# Altium footprint library UltiSID.PcbLib: 39 footprints (part 2 of 3)
Each footprint in its own frame and in the unit in brackets; x right, y up, seen from the top. Pads: shape width x height; smd on the part's side, far side on the other; paste and mask are expansions set on the pad; w line width, h text height; cw(c..) or ccw(c..) is an arc to the next point about the centre after c.
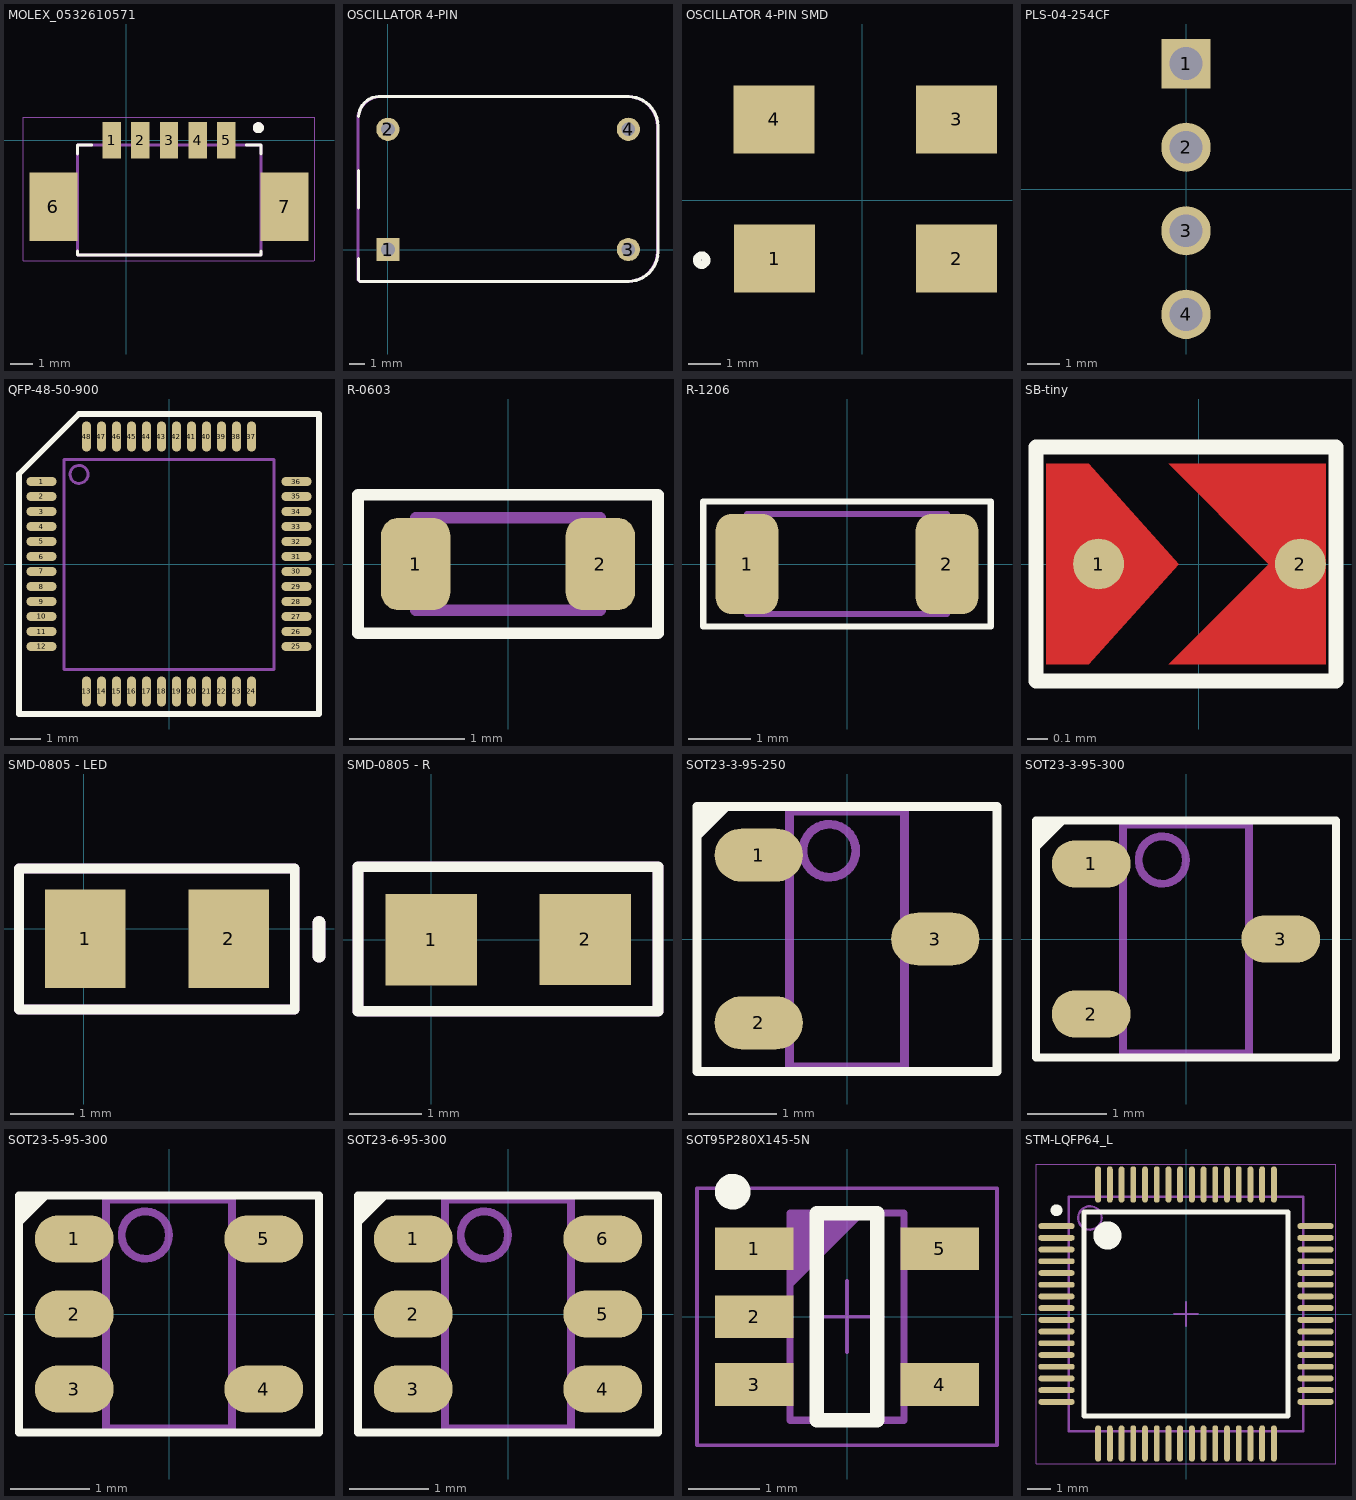
[diagram p1: the footprints below, top view; thin cyan lines are the x and y axes]

## MOLEX_0532610571 [mm] "1.25mm PicoBlade PCB Header"
height 5
pads (7):
  rect 0.8x1.6 smd: 1(-0.625,0) 2(0.625,0) 3(1.875,0) 4(3.125,0) 5(4.375,0)
  rect 2.1x3 smd: 6(-3.175,-2.9) 7(6.925,-2.9)
Top Overlay:
  circle w0.24: c5.775,0.55 r0.12
  lines w0.127: -2.125,-4.825 -2.125,-5 5.9,-5 5.9,-4.825 ; -2.125,-0.6 -2.125,-0.2 -1.5,-0.2 ; 5.25,-0.2 5.9,-0.2 5.9,-0.6
Mechanical 13:
  circle w0.24: c5.775,0.55 r0.12
  lines w0.127: -2.125,-5 5.9,-5 5.9,-0.2 -2.125,-0.2 -2.125,-5
Mechanical 15:
  lines w0.05: 8.2,-5.25 -4.5,-5.25 -4.5,1 4.5,1 8.2,1 ; 8.25,-5.25 8.25,-3.713 8.25,-1.965 ; 8.25,-2 8.25,-1.5 8.25,1
3D body "532610571.stp": height 3.4, standoff 0, extent -3.825,-4.725 7.575,0.475

## OSCILLATOR 4-PIN [mil]
pads (4):
  rect 58x58 hole 34: 1(0,0)
  round 58 hole 34: 2(0,300.2) 3(600.39,0) 4(600.39,300.2)
Top Overlay:
  lines w7.99: -73.82,-75.79 -73.82,-22.64 ; -73.82,104.33 -73.82,196.85 ; -73.22,332.16 cw(c-22.18,330.82) -23.52,381.85 ; -69.88,-79.72 601.38,-79.72 ccw(c599.41,-4.92) 674.21,-6.89 674.21,309.06 ccw(c599.41,307.09) 601.38,381.89 -22.18,381.89
Mechanical 1:
  lines w4.92: -74.8,-75.79 -70.87,-79.72
  lines w7.99: -74.8,-75.79 -74.8,324.8 ; -74.78,326.3 cw(c-17.72,324.8) -19.22,381.87 ; -70.87,-79.72 600.39,-79.72 ccw(c598.43,-4.92) 673.23,-6.89 673.23,309.06 ccw(c598.43,307.09) 600.39,381.89 -17.72,381.89

## OSCILLATOR 4-PIN SMD [mm]
pads (4):
  rect 2.5x2.1 smd: 1(-2.718,-1.803) 2(2.919,-1.8) 3(2.919,2.509) 4(-2.733,2.509)
Top Overlay:
  circle w0.254: c-4.975,-1.85 r0.144

## PLS-04-254CF [mm] "Male, Body 2.5x10.2mm case free"
height 2.5
pads (4):
  rect 1.5x1.5 hole 1: 1(0,3.81)
  round 1.5 hole 1: 2(0,1.27) 3(0,-1.27) 4(0,-3.81)
Mechanical 1:
  text ".Designator" at 1.8,4.67 h1

## QFP-48-50-900 [mm] "Body 7.0x7.0mm"
height 1.6
pads (48):
  oval 1x0.3 smd: 1(-4.25,2.75) 2(-4.25,2.25) 3(-4.25,1.75) 4(-4.25,1.25) 5(-4.25,0.75) 6(-4.25,0.25) 7(-4.25,-0.25) 8(-4.25,-0.75) 9(-4.25,-1.25) 10(-4.25,-1.75) 11(-4.25,-2.25) 12(-4.25,-2.75) 25(4.25,-2.75) 26(4.25,-2.25) 27(4.25,-1.75) 28(4.25,-1.25) 29(4.25,-0.75) 30(4.25,-0.25) 31(4.25,0.25) 32(4.25,0.75) 33(4.25,1.25) 34(4.25,1.75) 35(4.25,2.25) 36(4.25,2.75)
  oval 0.3x1 smd: 13(-2.75,-4.25) 14(-2.25,-4.25) 15(-1.75,-4.25) 16(-1.25,-4.25) 17(-0.75,-4.25) 18(-0.25,-4.25) 19(0.25,-4.25) 20(0.75,-4.25) 21(1.25,-4.25) 22(1.75,-4.25) 23(2.25,-4.25) 24(2.75,-4.25) 37(2.75,4.25) 38(2.25,4.25) 39(1.75,4.25) 40(1.25,4.25) 41(0.75,4.25) 42(0.25,4.25) 43(-0.25,4.25) 44(-0.75,4.25) 45(-1.25,4.25) 46(-1.75,4.25) 47(-2.25,4.25) 48(-2.75,4.25)
Top Overlay:
  lines w0.2: -5,-5 5,-5 5,5 -3,5 -5,3 -5,-5
Mechanical 1:
  circle w0.1: c-3,2.987 r0.3
  lines w0.1: -3.5,-3.513 3.5,-3.513 3.5,3.488 -3.5,3.488 -3.5,-3.513
  text ".Designator" at -1.75,-0.925 h2
3D body "TQFP-48.STEP": height 1.48, standoff 0.02, extent -4.5,-4.5 4.5,4.5

## R-0603 [mm] "Chip Resistor, Body 1.6x0.8mm"
height 0.5
pads (2):
  rrect50% 0.6x0.8 smd: 1(-0.8,0) 2(0.8,0)
Top Overlay:
  lines w0.1: -1.3,-0.6 -1.3,0.6 1.3,0.6 1.3,-0.6 -1.3,-0.6
Mechanical 1:
  lines w0.1: -0.8,-0.4 0.8,-0.4 0.8,0.4 -0.8,0.4 -0.8,-0.4
  text ".Designator" at -0.6,-0.2 h0.4
3D body "SMDRES_0603.step": height 0.47, standoff 0.02, extent -0.8,-0.4 0.8,0.4

## R-1206 [mm] "Chip Resistor, Body 3.2x1.6mm"
height 0.6
pads (2):
  rrect50% 1x1.6 smd: 1(-1.6,0) 2(1.6,0)
Top Overlay:
  lines w0.1: -2.3,-1 2.3,-1 2.3,1 -2.3,1 -2.3,-1
Mechanical 1:
  lines w0.1: -1.6,-0.8 -1.6,0.8 1.6,0.8 1.6,-0.8 -1.6,-0.8
  text ".Designator" at -1.3,-0.5 h0.7
3D body "SMDRES_1206.step": height 0.62, standoff 0.02, extent -1.6,-0.8 1.6,0.8

## SB-tiny [mil]
height 118.11
pads (2):
  round 10 smd paste-10 mask+0.04: 1(-19.68,0)
  round 10 smd paste-10.08 mask+0.04: 2(20,0)
Top Layer:
  region: -5.91,19.68 13.78,0 -5.91,-19.68 25,-19.68 25,19.68
  region: -30,-19.68 -30,19.68 -21.65,19.68 -3.94,0 -21.65,-19.68
Top Overlay:
  lines w2.95: -32,-23 27,-23 27,23 -32,23 -32,-23
Top Solder:
  region: -30,21.65 25,21.65 25,-21.65 -30,-21.65

## SMD-0805 - LED [mil]
pads (2):
  rect 50x61.02 smd: 1(1,-6) 2(90,-6)
Top Overlay:
  lines w6: -40,-50 131,-50 131,37.5 -40,37.5 -40,-50
  lines w7.87: 146,-17 146,4
Mechanical 1:
  lines w6: -40,-50 131,-50 131,37.5 -40,37.5 -40,-50
  lines w7.87: 146,-17 146,4

## SMD-0805 - R [mm]
pads (2):
  rect 1.27x1.27 smd: 1(0,0) 2(2.142,0.006)
Top Overlay:
  lines w0.152: -1.016,-0.991 -1.016,1.016 3.15,1.016 3.15,-0.991 -1.016,-0.991
Mechanical 1:
  lines w0.152: -1.016,-0.991 -1.016,1.016 3.15,1.016 3.15,-0.991 -1.016,-0.991

## SOT23-3-95-250 [mm] "Body 1.3x2.9mm"
height 1
pads (3):
  oval 1x0.6 smd: 1(-1,0.95) 2(-1,-0.95) 3(1,0)
Top Overlay:
  region: -1.7,1.1 -1.7,1.5 -1.3,1.5
  lines w0.1: -1.7,-1.5 1.7,-1.5 1.7,1.5 -1.7,1.5 -1.7,-1.5
Mechanical 1:
  circle w0.1: c-0.2,1 r0.3
  lines w0.1: -0.65,-1.45 0.65,-1.45 0.65,1.45 -0.65,1.45 -0.65,-1.45
  text ".Designator" at -0.2,0.4 h0.7
3D body "User Library-SOT23_2_86x1_30x1_0_p1_9.step": height 1.05, standoff -0.01, extent -1.15,-1.43 1.15,1.43

## SOT23-3-95-300 [mm] "Body 1.6x2.9mm"
height 1
pads (3):
  oval 1x0.6 smd: 1(-1.2,0.95) 2(-1.2,-0.95) 3(1.2,0)
Top Overlay:
  region: -1.9,1.1 -1.9,1.5 -1.5,1.5
  lines w0.1: -1.9,-1.5 -1.9,1.5 1.9,1.5 1.9,-1.5 -1.9,-1.5
Mechanical 1:
  circle w0.1: c-0.3,1 r0.3
  lines w0.1: -0.8,-1.45 -0.8,1.45 0.8,1.45 0.8,-1.45 -0.8,-1.45
  text ".Designator" at -0.4,0.35 h0.7
3D body "SOT23-3.step": height 1.3, standoff 0, extent -1.4,-1.45 1.4,1.45

## SOT23-5-95-300 [mm] "Body 1.6x2.9mm"
height 1
pads (5):
  oval 1x0.6 smd: 1(-1.2,0.95) 2(-1.2,0) 3(-1.2,-0.95) 4(1.2,-0.95) 5(1.2,0.95)
Top Overlay:
  region: -1.9,1.1 -1.9,1.5 -1.5,1.5
  lines w0.1: -1.9,-1.5 -1.9,1.5 1.9,1.5 1.9,-1.5 -1.9,-1.5
Mechanical 1:
  circle w0.1: c-0.3,1 r0.3
  lines w0.1: -0.8,-1.45 -0.8,1.45 0.8,1.45 0.8,-1.45 -0.8,-1.45
  text ".Designator" at -0.25,0.4 h0.7
3D body "SOT23-5-2.step": height 1.45, standoff 0, extent -1.4,-1.45 1.4,1.45

## SOT23-6-95-300 [mm] "Body 1.6x2.9mm"
height 1
pads (6):
  oval 1x0.6 smd: 1(-1.2,0.95) 2(-1.2,0) 3(-1.2,-0.95) 4(1.2,-0.95) 5(1.2,0) 6(1.2,0.95)
Top Overlay:
  region: -1.9,1.1 -1.9,1.5 -1.5,1.5
  lines w0.1: -1.9,-1.5 -1.9,1.5 1.9,1.5 1.9,-1.5 -1.9,-1.5
Mechanical 1:
  circle w0.1: c-0.3,1 r0.3
  lines w0.1: -0.8,-1.45 -0.8,1.45 0.8,1.45 0.8,-1.45 -0.8,-1.45
  text ".Designator" at -1.25,1.8 h0.7
3D body "SOT23-6-2.step": height 1.45, standoff 0, extent -1.4,-1.45 1.4,1.45

## SOT95P280X145-5N [mm] "SOT, 0.95mm pitch; 5 pin, 1.60mm W X 2.90mm L X 1.45mm H body, IPC Medium Density"
height 1.45
pads (5):
  rect 1.1x0.6 smd: 1(-1.3,0.95) 2(-1.3,0) 3(-1.3,-0.95) 4(1.3,-0.95) 5(1.3,0.95)
Top Overlay:
  circle w0.25: c-1.6,1.75 r0.125
  lines w0.2: -0.425,-1.45 -0.425,1.45 0.425,1.45 0.425,-1.45 -0.425,-1.45
Mechanical 14:
  lines w0.1: -0.8,0.45 0.2,1.45 ; -0.8,0.55 0.1,1.45 ; -0.8,0.65 0,1.45 ; -0.8,0.75 -0.1,1.45 ; -0.8,0.85 -0.2,1.45 ; -0.8,0.95 -0.3,1.45 ; -0.8,1.05 -0.4,1.45 ; -0.8,1.15 -0.5,1.45 ; -0.8,1.25 -0.6,1.45 ; -0.8,1.35 -0.7,1.45 ; -0.8,-1.45 -0.8,1.45 0.8,1.45 0.8,-1.45 -0.8,-1.45
Mechanical 15:
  lines w0.05: -0.5,0 0.5,0 ; 0,-0.5 0,0.5 ; -2.1,-1.8 -2.1,1.8 2.1,1.8 2.1,-1.8 -2.1,-1.8
3D body "SOT95P280X145-5N.stp": height 1.45, standoff 0, extent -1.4,-1.5 1.4,1.5

## STM-LQFP64_L [mm] "Thin QFP, 64-Leads, Body 10x10mm, Pitch 0.5mm, IPC High Density"
height 1.6
pads (64):
  oval 1.55x0.25 smd: 1(-5.525,3.75) 2(-5.525,3.25) 3(-5.525,2.75) 4(-5.525,2.25) 5(-5.525,1.75) 6(-5.525,1.25) 7(-5.525,0.75) 8(-5.525,0.25) 9(-5.525,-0.25) 10(-5.525,-0.75) 11(-5.525,-1.25) 12(-5.525,-1.75) 13(-5.525,-2.25) 14(-5.525,-2.75) 15(-5.525,-3.25) 16(-5.525,-3.75) 33(5.525,-3.75) 34(5.525,-3.25) 35(5.525,-2.75) 36(5.525,-2.25) 37(5.525,-1.75) 38(5.525,-1.25) 39(5.525,-0.75) 40(5.525,-0.25) 41(5.525,0.25) 42(5.525,0.75) 43(5.525,1.25) 44(5.525,1.75) 45(5.525,2.25) 46(5.525,2.75) 47(5.525,3.25) 48(5.525,3.75)
  oval 0.25x1.55 smd: 17(-3.75,-5.525) 18(-3.25,-5.525) 19(-2.75,-5.525) 20(-2.25,-5.525) 21(-1.75,-5.525) 22(-1.25,-5.525) 23(-0.75,-5.525) 24(-0.25,-5.525) 25(0.25,-5.525) 26(0.75,-5.525) 27(1.25,-5.525) 28(1.75,-5.525) 29(2.25,-5.525) 30(2.75,-5.525) 31(3.25,-5.525) 32(3.75,-5.525) 49(3.75,5.525) 50(3.25,5.525) 51(2.75,5.525) 52(2.25,5.525) 53(1.75,5.525) 54(1.25,5.525) 55(0.75,5.525) 56(0.25,5.525) 57(-0.25,5.525) 58(-0.75,5.525) 59(-1.25,5.525) 60(-1.75,5.525) 61(-2.25,5.525) 62(-2.75,5.525) 63(-3.25,5.525) 64(-3.75,5.525)
Top Overlay:
  circle w0.6: c-3.35,3.35 r0.3
  circle w0.25: c-5.525,4.425 r0.125
  lines w0.2: -4.35,-4.35 4.35,-4.35 4.35,4.35 -4.35,4.35 -4.35,-4.35
Mechanical 13:
  circle w0.1: c-4.1,4.1 r0.5
  lines w0.1: -5,-5 5,-5 5,5 -5,5 -5,-5
Mechanical 15:
  lines w0.05: -6.4,-6.4 6.4,-6.4 6.4,6.4 -6.4,6.4 -6.4,-6.4
  lines w0.1: -0.5,0 0.5,0 ; 0,-0.5 0,0.5
3D body: height 1.6, standoff 0.05, extent -5,-5 5,5